# Altium footprint library 2.54_Connector_x3_female.PcbLib: 1 footprints
Each footprint in its own frame and in the unit in brackets; x right, y up, seen from the top. Pads: shape width x height; smd on the part's side, far side on the other; paste and mask are expansions set on the pad; w line width, h text height; cw(c..) or ccw(c..) is an arc to the next point about the centre after c.
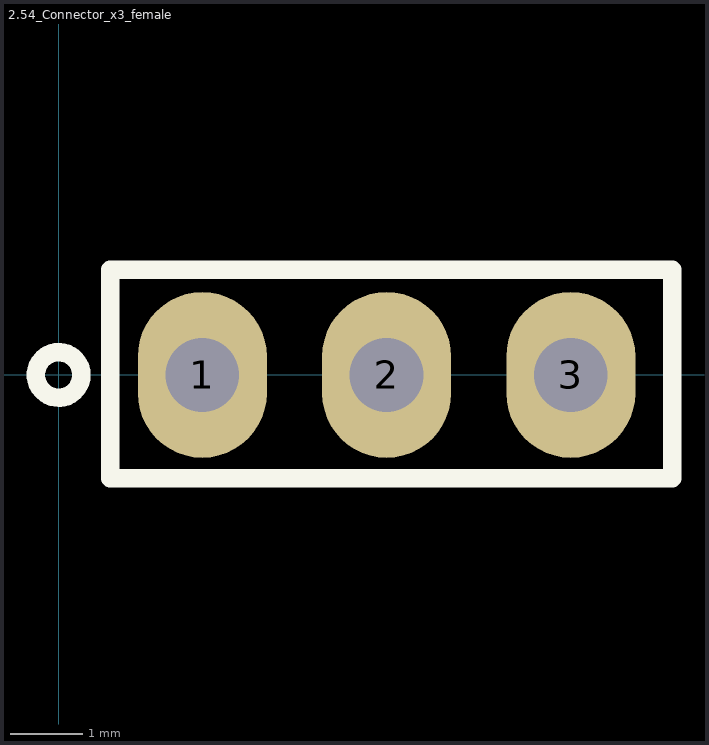
[diagram p0: the footprint, top view; thin cyan lines are the x and y axes]

## 2.54_Connector_x3_female [mil]
pads (3):
  oval 70x90 hole 40: 1(78,0) 2(178,0) 3(278,0)
Top Overlay:
  circle w10: c0,0 r12.37
  lines w10: 28,-56 333,-56 333,57 28,57 28,-56
Bottom Overlay:
  lines w10: 28,-56 333,-56 333,57 28,57 28,-56
3D body "PIN x3 female.STEP": height 87.86, standoff -365.35, extent 28,-47.24 328,47.24